# Altium schematic symbol library Schlib1.SchLib: 77 symbols
Pins are listed as number, name and electrical type; pins without a type are passive.

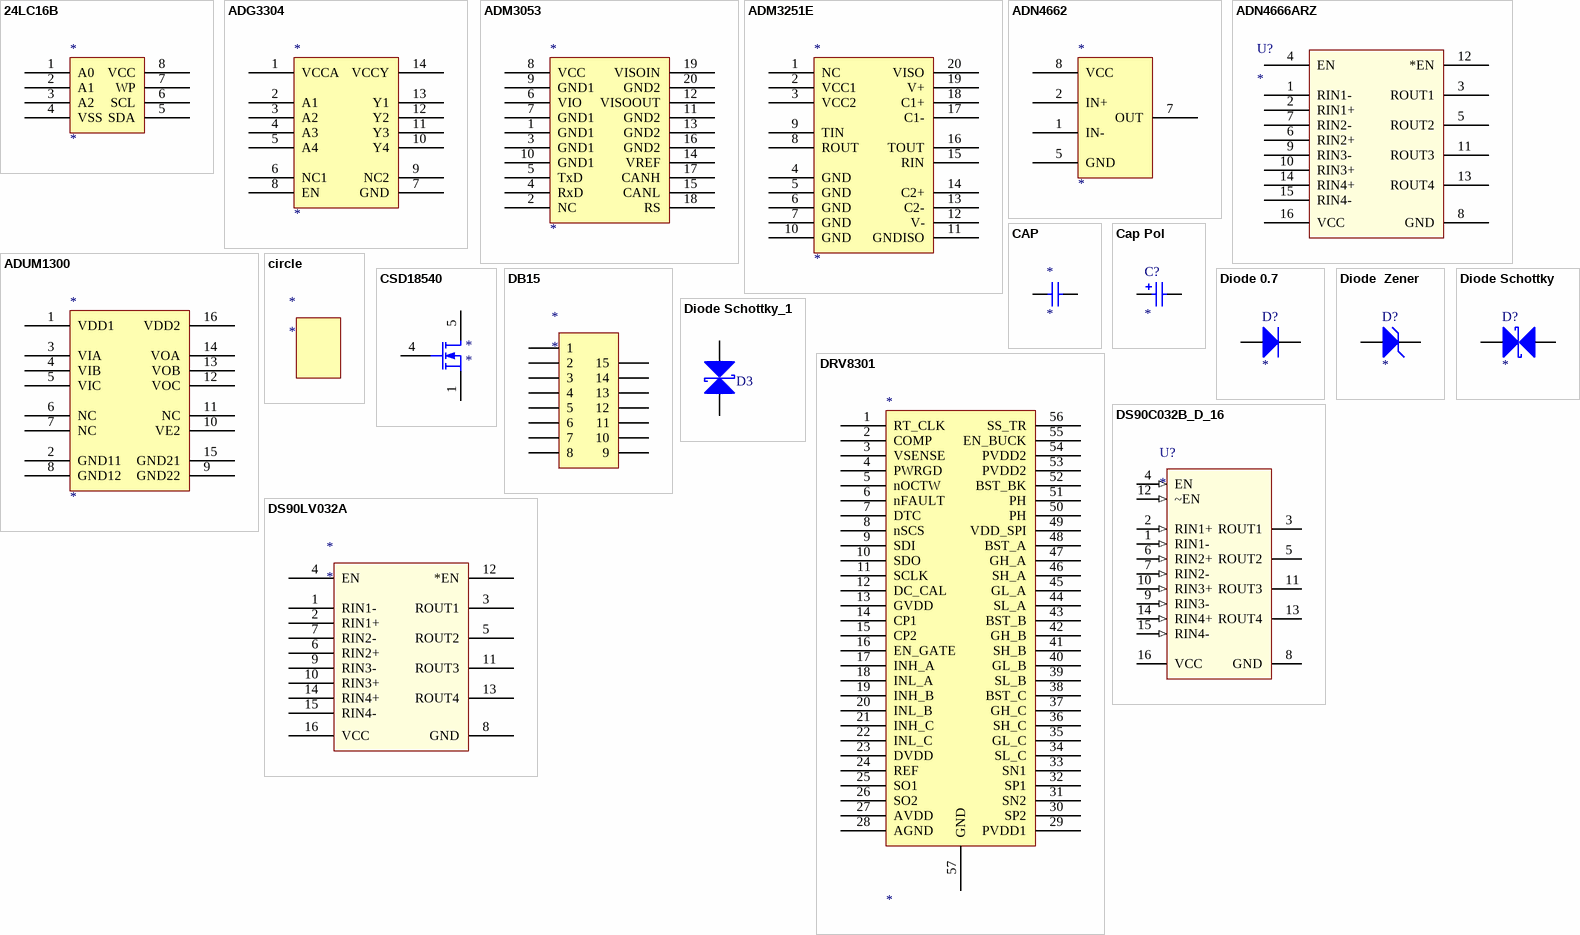
[diagram p0: symbols 24LC16B to DS90LV032A]

## 24LC16B
designator *
footprint 24LC16B SOIC8
pins: 1 A0, 2 A1, 3 A2, 4 VSS, 5 SDA, 6 SCL, 7 WP, 8 VCC
2 alternate drawings of the same symbol

## ADG3304
designator *
pins: 1 VCCA, 2 A1, 3 A2, 4 A3, 5 A4, 6 NC1, 7 GND, 8 EN, 9 NC2, 10 Y4, 11 Y3, 12 Y2, 13 Y1, 14 VCCY
2 alternate drawings of the same symbol

## ADM3053
designator *
footprint ADM3053 SOIC20
pins: 1 GND1, 2 NC, 3 GND1, 4 RxD, 5 TxD, 6 VIO, 7 GND1, 8 VCC, 9 GND1, 10 GND1, 11 GND2, 12 VISOOUT, 13 GND2, 14 VREF, 15 CANL, 16 GND2, 17 CANH, 18 RS, 19 VISOIN, 20 GND2
2 alternate drawings of the same symbol

## ADM3251E
designator *
footprint ADM3053 SOIC20
pins: 1 NC, 2 VCC1, 3 VCC2, 4 GND, 5 GND, 6 GND, 7 GND, 8 ROUT, 9 TIN, 10 GND, 11 GNDISO, 12 V-, 13 C2-, 14 C2+, 15 RIN, 16 TOUT, 17 C1-, 18 C1+, 19 V+, 20 VISO
2 alternate drawings of the same symbol

## ADN4662
designator *
footprint 24LC16B SOIC8
pins: 1 IN-, 2 IN+, 5 GND, 7 OUT, 8 VCC
2 alternate drawings of the same symbol

## ADN4666ARZ
designator U?
Imported; RefDes: RefDes; Type: DEV; Value: Value
footprint R_16
pins: 1 RIN1-, 2 RIN1+, 3 ROUT1, 4 EN, 5 ROUT2, 6 RIN2+, 7 RIN2-, 8 GND, 9 RIN3-, 10 RIN3+, 11 ROUT3, 12 *EN, 13 ROUT4, 14 RIN4+, 15 RIN4-, 16 VCC

## ADUM1300
designator *
pins: 1 VDD1, 2 GND11, 3 VIA, 4 VIB, 5 VIC, 6 NC, 7 NC, 8 GND12, 9 GND22, 10 VE2, 11 NC, 12 VOC, 13 VOB, 14 VOA, 15 GND21, 16 VDD2
2 alternate drawings of the same symbol

## CAP
designator *
pins: 1, 2
2 alternate drawings of the same symbol

## Cap Pol
designator C?
Polarized Capacitor (Radial); Published: *; Revision: *; Publisher: *; Value: *; Voltage: *
footprint CAPPR1.5-4X5
footprint CAPPR2.5-6.3X11.5
footprint CAPPR10-25X30
footprint CAPPR1.5-4X7
pins: 1, 2
2 alternate drawings of the same symbol

## circle
designator *

## CSD18540
designator *
footprint CSD18540 - duplicate
pins: 1 S, 4 G, 5 D
2 alternate drawings of the same symbol

## DB15
designator *
pins: 1, 2, 3, 4, 5, 6, 7, 8, 9, 10, 11, 12, 13, 14, 15

## Diode 0.7
designator D?
Default Diode; Published: *; Revision: *; Publisher: *; Code - JEDEC: *
footprint DIODE-0.7
pins: 1 A, 2 K
2 alternate drawings of the same symbol

## Diode  Zener
designator D?
Zener Diode; Published: *; Revision: *; Publisher: *
footprint DIODE-0.7
footprint DIODE-0.3
footprint DIODE-0.4
pins: 1 A, 2 K
2 alternate drawings of the same symbol

## Diode Schottky
designator D?
Schottky Diode; Published: *; LatestRevisionDate: *; LatestRevisionNote: *; PackageReference: *; Publisher: *; Code_JEDEC: *
footprint DSO-C2/X2.3
pins: 1 A, 2 K
2 alternate drawings of the same symbol

## Diode Schottky_1
designator D3, comment Diode Schottky  (value not drawn)
Schottky Diode; Published: 8-Jun-2000; LatestRevisionDate: 17-Jul-2002; LatestRevisionNote: Re-released for DXP Platform.; PackageReference: SMB; Publisher: Altium Limited; Code_JEDEC: DO-214-AA
footprint TVS
pins: 1 A, 2 K
2 alternate drawings of the same symbol

## DRV8301
designator *
footprint DRV8301
pins: 1 RT_CLK, 2 COMP, 3 VSENSE, 4 PWRGD, 5 nOCTW, 6 nFAULT, 7 DTC, 8 nSCS, 9 SDI, 10 SDO, 11 SCLK, 12 DC_CAL, 13 GVDD, 14 CP1, 15 CP2, 16 EN_GATE, 17 INH_A, 18 INL_A, 19 INH_B, 20 INL_B, 21 INH_C, 22 INL_C, 23 DVDD, 24 REF, 25 SO1, 26 SO2, 27 AVDD, 28 AGND, 29 PVDD1, 30 SP2, 31 SN2, 32 SP1, 33 SN1, 34 SL_C, 35 GL_C, 36 SH_C, 37 GH_C, 38 BST_C, 39 SL_B, 40 GL_B, 41 SH_B, 42 GH_B, 43 BST_B, 44 SL_A, 45 GL_A, 46 SH_A, 47 GH_A, 48 BST_A, 49 VDD_SPI, 50 PH, 51 PH, 52 BST_BK, 53 PVDD2, 54 PVDD2, 55 EN_BUCK, 56 SS_TR, 57 GND
2 alternate drawings of the same symbol

## DS90C032B_D_16
designator U?
Imported; PartNumber: DS90C032BTM; Manufacturer: NationalSemiconductor; PackageTopMarking: NSUZXYTTE#DS90C032BTM; PowerWise: N; CompType: InterfaceIC; ComponentLink1DescBC: DS90C032BDatasheet; ComponentLink2DescA4: DS90C032BWebPage; ComponentLink3DescAC: M16APackagePage; Value: Value; Published: 4-Dec-2008; DatasheetVersion: Sep-2003; PackageVersion: revJAug-1995; PackageReference: M16A; Publisher: AltiumLimited; PackageDescription: MoldedPackageSO150inWide16Lead; RoHS: N; PinCount: 16; Code_JEDEC: MS-012-AC; Code_IPC: SOIC127P600-16; ComponentLink1URL: http//wwwnationalcom/ds/DS/DS90C032Bpdf; ComponentLink2URL: http//wwwnationalcom/pf/DS/DS90C032Bhtml; ComponentLink3URL: http//wwwnationalcom/packaging/folders/m16ahtml
footprint M16A_N
pins: 1 RIN1- (in), 2 RIN1+ (in), 3 ROUT1 (hiz), 4 EN (in), 5 ROUT2 (hiz), 6 RIN2+ (in), 7 RIN2- (in), 8 GND (power), 9 RIN3- (in), 10 RIN3+ (in), 11 ROUT3 (hiz), 12 ~EN (in), 13 ROUT4 (hiz), 14 RIN4+ (in), 15 RIN4- (in), 16 VCC (power)

## DS90LV032A
designator *
footprint DS90LV032A
pins: 1 RIN1-, 2 RIN1+, 3 ROUT1, 4 EN, 5 ROUT2, 6 RIN2+, 7 RIN2-, 8 GND, 9 RIN3-, 10 RIN3+, 11 ROUT3, 12 *EN, 13 ROUT4, 14 RIN4+, 15 RIN4-, 16 VCC

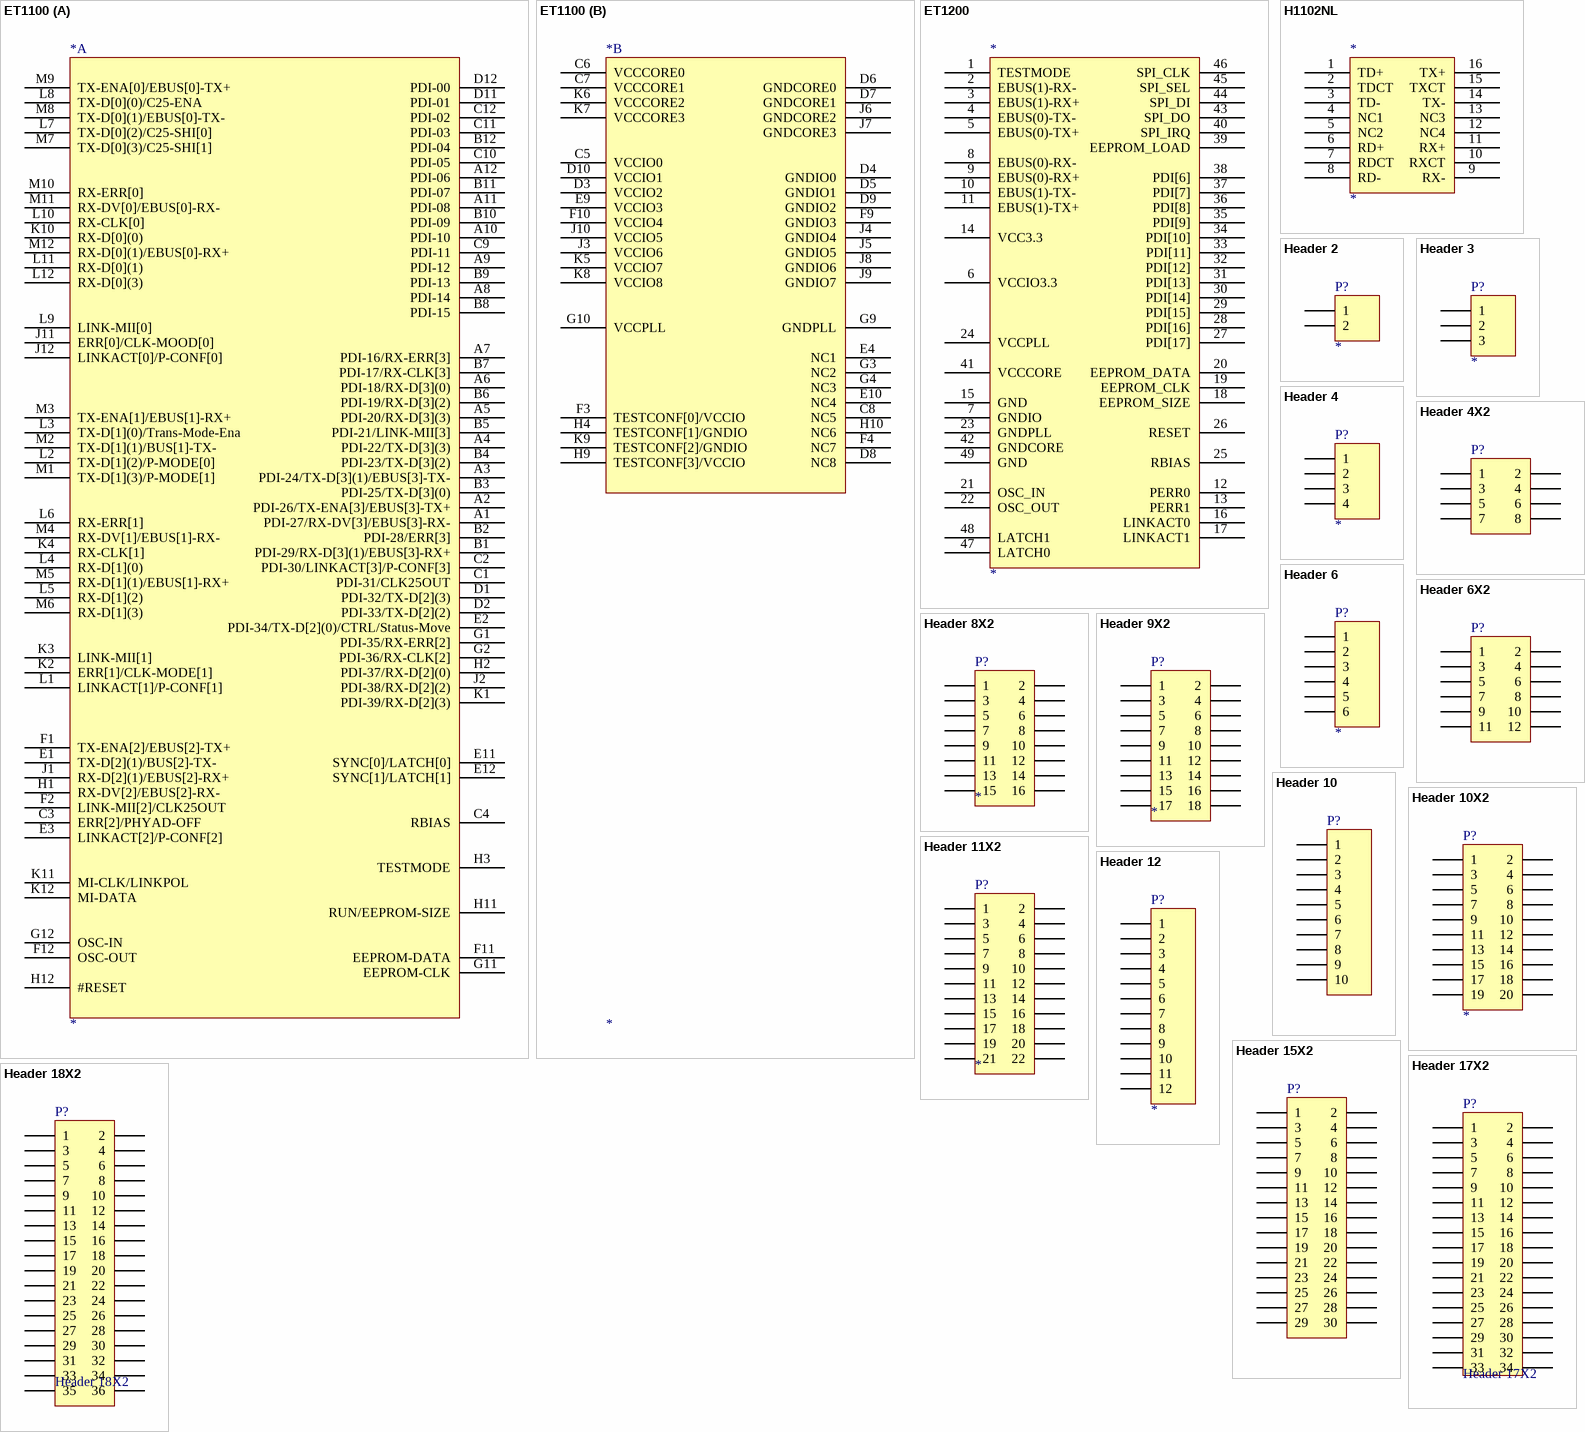
[diagram p1: symbols ET1100 to Header 18X2]

## ET1100
designator *
footprint ET1100
part A pins: A1 PDI-27/RX-DV[3]/EBUS[3]-RX-, A2 PDI-26/TX-ENA[3]/EBUS[3]-TX+, A3 PDI-24/TX-D[3](1)/EBUS[3]-TX-, A4 PDI-22/TX-D[3](3), A5 PDI-20/RX-D[3](3), A6 PDI-18/RX-D[3](0), A7 PDI-16/RX-ERR[3], A8 PDI-14, A9 PDI-12, A10 PDI-10, A11 PDI-08, A12 PDI-06, B1 PDI-29/RX-D[3](1)/EBUS[3]-RX+, B2 PDI-28/ERR[3], B3 PDI-25/TX-D[3](0), B4 PDI-23/TX-D[3](2), B5 PDI-21/LINK-MII[3], B6 PDI-19/RX-D[3](2), B7 PDI-17/RX-CLK[3], B8 PDI-15, B9 PDI-13, B10 PDI-09, B11 PDI-07, B12 PDI-04, C1 PDI-31/CLK25OUT, C2 PDI-30/LINKACT[3]/P-CONF[3], C3 ERR[2]/PHYAD-OFF, C4 RBIAS, C9 PDI-11, C10 PDI-05, C11 PDI-03, C12 PDI-02, D1 PDI-32/TX-D[2](3), D2 PDI-33/TX-D[2](2), D11 PDI-01, D12 PDI-00, E1 TX-D[2](1)/BUS[2]-TX-, E2 PDI-34/TX-D[2](0)/CTRL/Status-Move, E3 LINKACT[2]/P-CONF[2], E11 SYNC[0]/LATCH[0], E12 SYNC[1]/LATCH[1], F1 TX-ENA[2]/EBUS[2]-TX+, F2 LINK-MII[2]/CLK25OUT, F11 EEPROM-DATA, F12 OSC-OUT, G1 PDI-35/RX-ERR[2], G2 PDI-36/RX-CLK[2], G11 EEPROM-CLK, G12 OSC-IN, H1 RX-DV[2]/EBUS[2]-RX-, H2 PDI-37/RX-D[2](0), H3 TESTMODE, H11 RUN/EEPROM-SIZE, H12 #RESET, J1 RX-D[2](1)/EBUS[2]-RX+, J2 PDI-38/RX-D[2](2), J11 ERR[0]/CLK-MOOD[0], J12 LINKACT[0]/P-CONF[0], K1 PDI-39/RX-D[2](3), K2 ERR[1]/CLK-MODE[1], K3 LINK-MII[1], K4 RX-CLK[1], K10 RX-D[0](0), K11 MI-CLK/LINKPOL, K12 MI-DATA, L1 LINKACT[1]/P-CONF[1], L2 TX-D[1](2)/P-MODE[0], L3 TX-D[1](0)/Trans-Mode-Ena, L4 RX-D[1](0), L5 RX-D[1](2), L6 RX-ERR[1], L7 TX-D[0](2)/C25-SHI[0], L8 TX-D[0](0)/C25-ENA, L9 LINK-MII[0], L10 RX-CLK[0], L11 RX-D[0](1), L12 RX-D[0](3), M1 TX-D[1](3)/P-MODE[1], M2 TX-D[1](1)/BUS[1]-TX-, M3 TX-ENA[1]/EBUS[1]-RX+, M4 RX-DV[1]/EBUS[1]-RX-, M5 RX-D[1](1)/EBUS[1]-RX+, M6 RX-D[1](3), M7 TX-D[0](3)/C25-SHI[1], M8 TX-D[0](1)/EBUS[0]-TX-, M9 TX-ENA[0]/EBUS[0]-TX+, M10 RX-ERR[0], M11 RX-DV[0]/EBUS[0]-RX-, M12 RX-D[0](1)/EBUS[0]-RX+
part B pins: C5 VCCIO0, C6 VCCCORE0, C7 VCCCORE1, C8 NC5, D3 VCCIO2, D4 GNDIO0, D5 GNDIO1, D6 GNDCORE0, D7 GNDCORE1, D8 NC8, D9 GNDIO2, D10 VCCIO1, E4 NC1, E9 VCCIO3, E10 NC4, F3 TESTCONF[0]/VCCIO, F4 NC7, F9 GNDIO3, F10 VCCIO4, G3 NC2, G4 NC3, G9 GNDPLL, G10 VCCPLL, H4 TESTCONF[1]/GNDIO, H9 TESTCONF[3]/VCCIO, H10 NC6, J3 VCCIO6, J4 GNDIO4, J5 GNDIO5, J6 GNDCORE2, J7 GNDCORE3, J8 GNDIO6, J9 GNDIO7, J10 VCCIO5, K5 VCCIO7, K6 VCCCORE2, K7 VCCCORE3, K8 VCCIO8, K9 TESTCONF[2]/GNDIO
2 alternate drawings of the same symbol

## ET1200
designator *
pins: 1 TESTMODE, 2 EBUS(1)-RX-, 3 EBUS(1)-RX+, 4 EBUS(0)-TX-, 5 EBUS(0)-TX+, 6 VCCIO3.3, 7 GNDIO, 8 EBUS(0)-RX-, 9 EBUS(0)-RX+, 10 EBUS(1)-TX-, 11 EBUS(1)-TX+, 12 PERR0, 13 PERR1, 14 VCC3.3, 15 GND, 16 LINKACT0, 17 LINKACT1, 18 EEPROM_SIZE, 19 EEPROM_CLK, 20 EEPROM_DATA, 21 OSC_IN, 22 OSC_OUT, 23 GNDPLL, 24 VCCPLL, 25 RBIAS, 26 RESET, 27 PDI[17], 28 PDI[16], 29 PDI[15], 30 PDI[14], 31 PDI[13], 32 PDI[12], 33 PDI[11], 34 PDI[10], 35 PDI[9], 36 PDI[8], 37 PDI[7], 38 PDI[6], 39 EEPROM_LOAD, 40 SPI_IRQ, 41 VCCCORE, 42 GNDCORE, 43 SPI_DO, 44 SPI_DI, 45 SPI_SEL, 46 SPI_CLK, 47 LATCH0, 48 LATCH1, 49 GND
2 alternate drawings of the same symbol

## H1102NL
designator *
pins: 1 TD+, 2 TDCT, 3 TD-, 4 NC1, 5 NC2, 6 RD+, 7 RDCT, 8 RD-, 9 RX-, 10 RXCT, 11 RX+, 12 NC4, 13 NC3, 14 TX-, 15 TXCT, 16 TX+
2 alternate drawings of the same symbol

## Header 2
designator P?
Header, 2-Pin; LatestRevisionDate: *; LatestRevisionNote: *; Publisher: *
footprint HDR1X2
footprint HX2.54-2
pins: 1, 2
2 alternate drawings of the same symbol

## Header 3
designator P?
Header, 3-Pin; LatestRevisionDate: *; LatestRevisionNote: *; Publisher: *
footprint HDR1X3
footprint HX2.54-3
footprint HX3.96-3
footprint HX5.08-3L
pins: 1, 2, 3
2 alternate drawings of the same symbol

## Header 4
designator P?
Header, 4-Pin; LatestRevisionDate: *; LatestRevisionNote: *; Publisher: *
footprint HDR1X4
footprint HX2.54-4
footprint HX2.54V-4
footprint HX3.96-4
pins: 1, 2, 3, 4
2 alternate drawings of the same symbol

## Header 4X2
designator P?
Header, 4-Pin, Dual row; LatestRevisionDate: 17-Jul-2002; LatestRevisionNote: Re-released for DXP Platform.; Publisher: Altium Limited
footprint HDR2X4 (Connector; Header; 4x2 Position)
signal-integrity model Connector
pins: 1, 2, 3, 4, 5, 6, 7, 8

## Header 6
designator P?
Header, 6-Pin; LatestRevisionDate: *; LatestRevisionNote: *; Publisher: *
footprint HDR1X6
footprint HX2.54-6
footprint HX3.96-6
pins: 1, 2, 3, 4, 5, 6
2 alternate drawings of the same symbol

## Header 6X2
designator P?
Header, 6-Pin, Dual row; LatestRevisionDate: 17-Jul-2002; LatestRevisionNote: Re-released for DXP Platform.; Publisher: Altium Limited
footprint HDR2X6 (Connector; Header; 6x2 Position)
signal-integrity model Connector
pins: 1, 2, 3, 4, 5, 6, 7, 8, 9, 10, 11, 12

## Header 8X2
designator P?
Header, 16-Pin, Dual row; LatestRevisionDate: *; LatestRevisionNote: *; Publisher: *
footprint HDR2X7
pins: 1, 2, 3, 4, 5, 6, 7, 8, 9, 10, 11, 12, 13, 14, 15, 16
2 alternate drawings of the same symbol

## Header 9X2
designator P?
Header, 18-Pin, Dual row; LatestRevisionDate: *; LatestRevisionNote: *; Publisher: *
footprint HDR2X8
footprint IDC2.54-16
pins: 1, 2, 3, 4, 5, 6, 7, 8, 9, 10, 11, 12, 13, 14, 15, 16, 17, 18
2 alternate drawings of the same symbol

## Header 10
designator P?
Header, 10-Pin; LatestRevisionDate: 17-Jul-2002; LatestRevisionNote: Re-released for DXP Platform.; Publisher: Altium Limited
footprint HDR1X10 (Connector; Header; 10 Position)
signal-integrity model Connector
pins: 1, 2, 3, 4, 5, 6, 7, 8, 9, 10

## Header 10X2
designator P?
Header, 10-Pin, Dual row; LatestRevisionDate: *; LatestRevisionNote: *; Publisher: *
footprint HDR2X10
footprint IDC2.54-20
pins: 1, 2, 3, 4, 5, 6, 7, 8, 9, 10, 11, 12, 13, 14, 15, 16, 17, 18, 19, 20
2 alternate drawings of the same symbol

## Header 11X2
designator P?
Header, 10-Pin, Dual row; LatestRevisionDate: *; LatestRevisionNote: *; Publisher: *
footprint HDR2X10
footprint IDC2.54-20
pins: 1, 2, 3, 4, 5, 6, 7, 8, 9, 10, 11, 12, 13, 14, 15, 16, 17, 18, 19, 20, 21, 22
2 alternate drawings of the same symbol

## Header 12
designator P?
Header, 12-Pin; LatestRevisionDate: *; LatestRevisionNote: *; Publisher: *
footprint HDR1X12
footprint HX2.54-12
pins: 1, 2, 3, 4, 5, 6, 7, 8, 9, 10, 11, 12
2 alternate drawings of the same symbol

## Header 15X2
designator P?
Header, 15-Pin, Dual row; LatestRevisionDate: 17-Jul-2002; LatestRevisionNote: Re-released for DXP Platform.; Publisher: Altium Limited
footprint HDR2X15 (Connector; Header; 15x2 Position)
signal-integrity model Connector
pins: 1, 2, 3, 4, 5, 6, 7, 8, 9, 10, 11, 12, 13, 14, 15, 16, 17, 18, 19, 20, 21, 22, 23, 24, 25, 26, 27, 28, 29, 30

## Header 17X2
designator P?
Header, 16-Pin, Dual row; LatestRevisionDate: 17-Jul-2002; LatestRevisionNote: Re-released for DXP Platform.; Publisher: Altium Limited
footprint HDR2X16 (Connector; Header; 16x2 Position)
signal-integrity model Connector
pins: 1, 2, 3, 4, 5, 6, 7, 8, 9, 10, 11, 12, 13, 14, 15, 16, 17, 18, 19, 20, 21, 22, 23, 24, 25, 26, 27, 28, 29, 30, 31, 32, 33, 34

## Header 18X2
designator P?
Header,36-Pin, Dual row; LatestRevisionDate: 17-Jul-2002; LatestRevisionNote: Re-released for DXP Platform.; Publisher: Altium Limited
footprint DC_1.27_36
pins: 1, 2, 3, 4, 5, 6, 7, 8, 9, 10, 11, 12, 13, 14, 15, 16, 17, 18, 19, 20, 21, 22, 23, 24, 25, 26, 27, 28, 29, 30, 31, 32, 33, 34, 35, 36

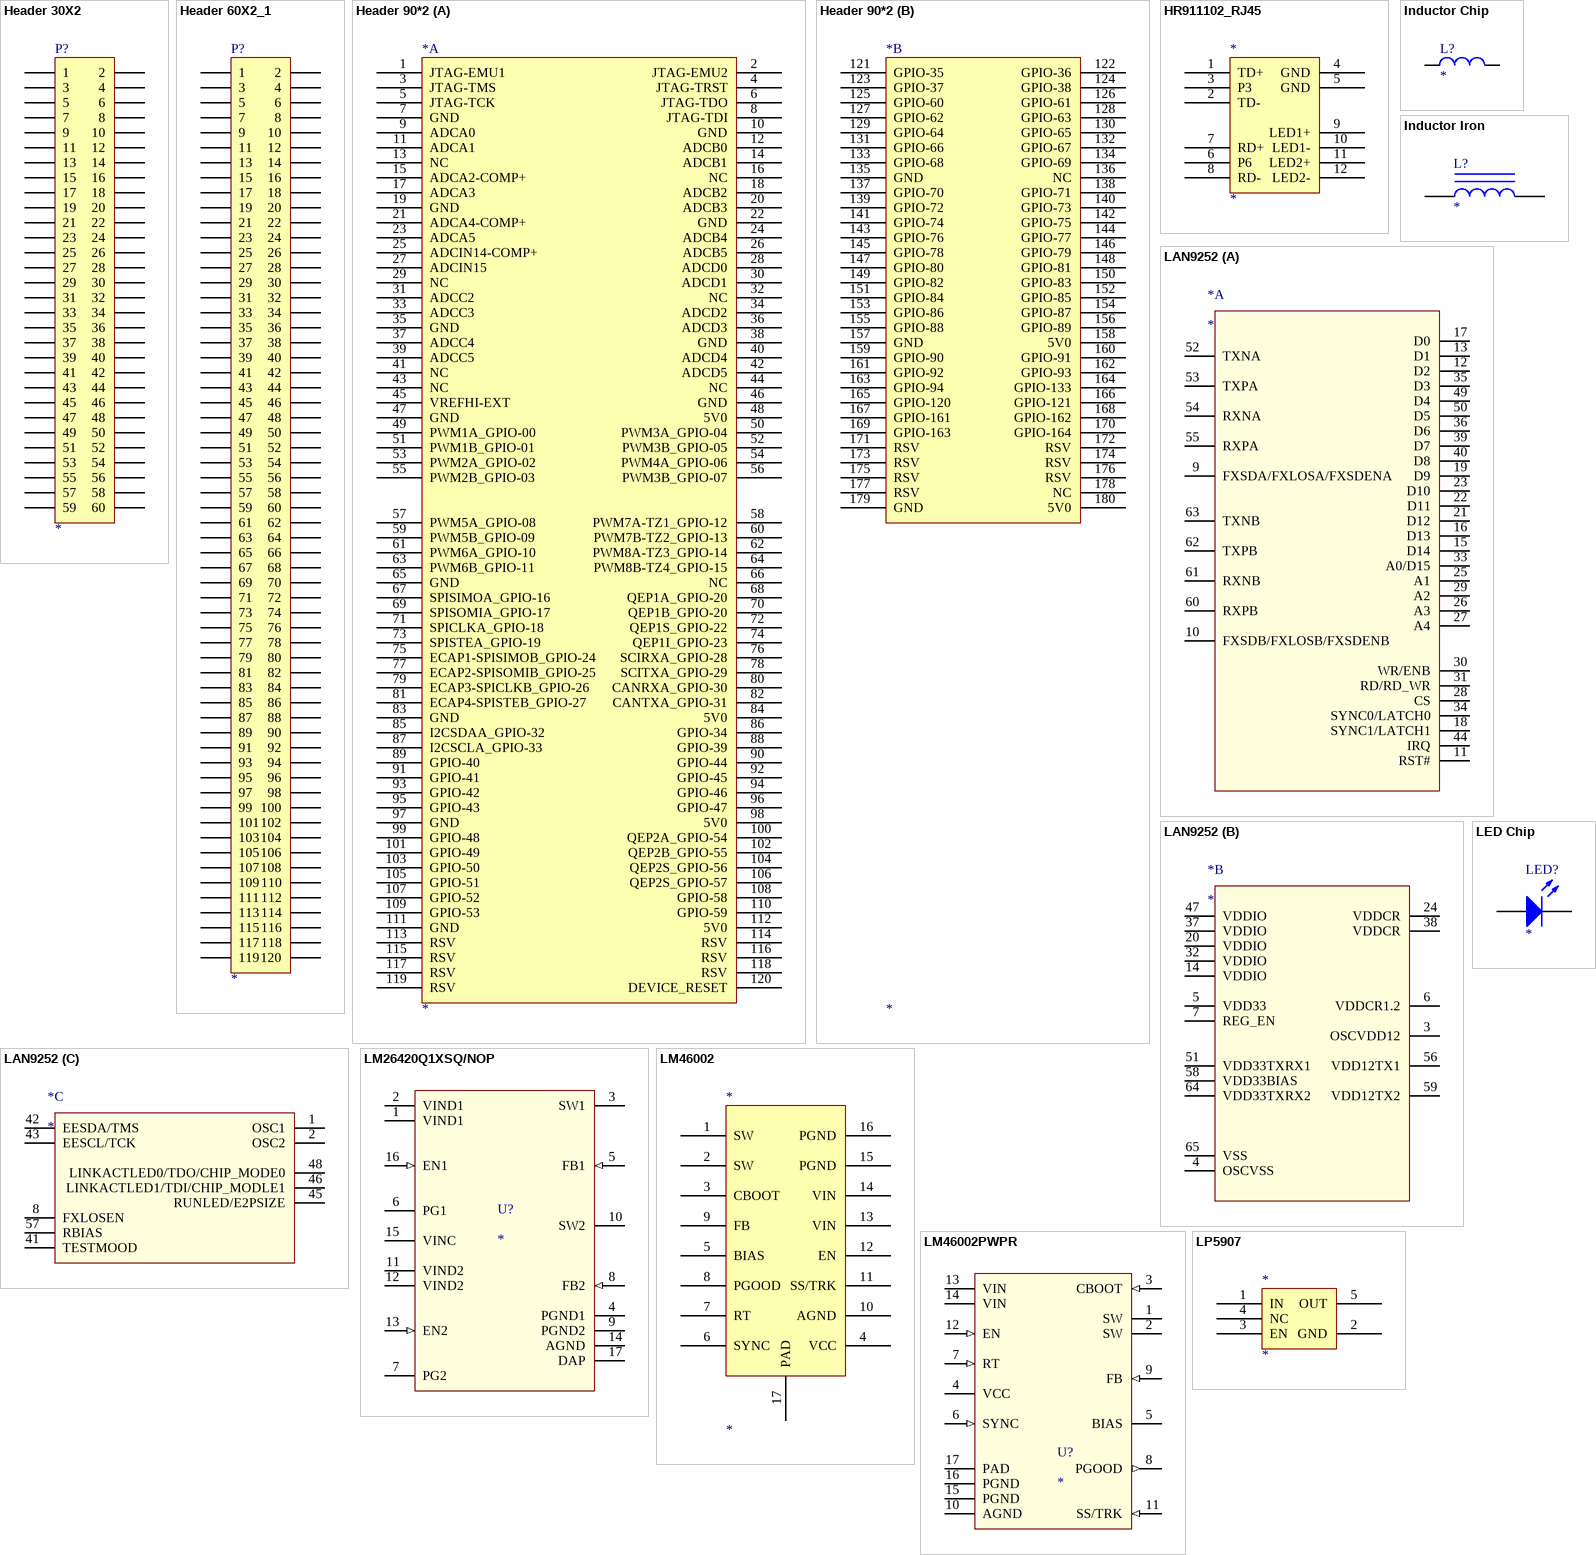
[diagram p2: symbols Header 30X2 to LP5907]

## Header 30X2
designator P?
Header, 30-Pin, Dual row; LatestRevisionDate: *; LatestRevisionNote: *; Publisher: *
footprint HDR2X30
pins: 1, 2, 3, 4, 5, 6, 7, 8, 9, 10, 11, 12, 13, 14, 15, 16, 17, 18, 19, 20, 21, 22, 23, 24, 25, 26, 27, 28, 29, 30, 31, 32, 33, 34, 35, 36, 37, 38, 39, 40, 41, 42, 43, 44, 45, 46, 47, 48, 49, 50, 51, 52, 53, 54, 55, 56, 57, 58, 59, 60
2 alternate drawings of the same symbol

## Header 60X2_1
designator P?
Header, 60-Pin, Dual row; LatestRevisionDate: *; LatestRevisionNote: *; Publisher: *
pins: 1, 2, 3, 4, 5, 6, 7, 8, 9, 10, 11, 12, 13, 14, 15, 16, 17, 18, 19, 20, 21, 22, 23, 24, 25, 26, 27, 28, 29, 30, 31, 32, 33, 34, 35, 36, 37, 38, 39, 40, 41, 42, 43, 44, 45, 46, 47, 48, 49, 50, 51, 52, 53, 54, 55, 56, 57, 58, 59, 60, 61, 62, 63, 64, 65, 66, 67, 68, 69, 70, 71, 72, 73, 74, 75, 76, 77, 78, 79, 80, 81, 82, 83, 84, 85, 86, 87, 88, 89, 90, 91, 92, 93, 94, 95, 96, 97, 98, 99, 100, 101, 102, 103, 104, 105, 106, 107, 108, 109, 110, 111, 112, 113, 114, 115, 116, 117, 118, 119, 120
2 alternate drawings of the same symbol

## Header 90*2
designator *
part A pins: 1 JTAG-EMU1, 2 JTAG-EMU2, 3 JTAG-TMS, 4 JTAG-TRST, 5 JTAG-TCK, 6 JTAG-TDO, 7 GND, 8 JTAG-TDI, 9 ADCA0, 10 GND, 11 ADCA1, 12 ADCB0, 13 NC, 14 ADCB1, 15 ADCA2-COMP+, 16 NC, 17 ADCA3, 18 ADCB2, 19 GND, 20 ADCB3, 21 ADCA4-COMP+, 22 GND, 23 ADCA5, 24 ADCB4, 25 ADCIN14-COMP+, 26 ADCB5, 27 ADCIN15, 28 ADCD0, 29 NC, 30 ADCD1, 31 ADCC2, 32 NC, 33 ADCC3, 34 ADCD2, 35 GND, 36 ADCD3, 37 ADCC4, 38 GND, 39 ADCC5, 40 ADCD4, 41 NC, 42 ADCD5, 43 NC, 44 NC, 45 VREFHI-EXT, 46 GND, 47 GND, 48 5V0, 49 PWM1A_GPIO-00, 50 PWM3A_GPIO-04, 51 PWM1B_GPIO-01, 52 PWM3B_GPIO-05, 53 PWM2A_GPIO-02, 54 PWM4A_GPIO-06, 55 PWM2B_GPIO-03, 56 PWM3B_GPIO-07, 57 PWM5A_GPIO-08, 58 PWM7A-TZ1_GPIO-12, 59 PWM5B_GPIO-09, 60 PWM7B-TZ2_GPIO-13, 61 PWM6A_GPIO-10, 62 PWM8A-TZ3_GPIO-14, 63 PWM6B_GPIO-11, 64 PWM8B-TZ4_GPIO-15, 65 GND, 66 NC, 67 SPISIMOA_GPIO-16, 68 QEP1A_GPIO-20, 69 SPISOMIA_GPIO-17, 70 QEP1B_GPIO-20, 71 SPICLKA_GPIO-18, 72 QEP1S_GPIO-22, 73 SPISTEA_GPIO-19, 74 QEP1I_GPIO-23, 75 ECAP1-SPISIMOB_GPIO-24, 76 SCIRXA_GPIO-28, 77 ECAP2-SPISOMIB_GPIO-25, 78 SCITXA_GPIO-29, 79 ECAP3-SPICLKB_GPIO-26, 80 CANRXA_GPIO-30, 81 ECAP4-SPISTEB_GPIO-27, 82 CANTXA_GPIO-31, 83 GND, 84 5V0, 85 I2CSDAA_GPIO-32, 86 GPIO-34, 87 I2CSCLA_GPIO-33, 88 GPIO-39, 89 GPIO-40, 90 GPIO-44, 91 GPIO-41, 92 GPIO-45, 93 GPIO-42, 94 GPIO-46, 95 GPIO-43, 96 GPIO-47, 97 GND, 98 5V0, 99 GPIO-48, 100 QEP2A_GPIO-54, 101 GPIO-49, 102 QEP2B_GPIO-55, 103 GPIO-50, 104 QEP2S_GPIO-56, 105 GPIO-51, 106 QEP2S_GPIO-57, 107 GPIO-52, 108 GPIO-58, 109 GPIO-53, 110 GPIO-59, 111 GND, 112 5V0, 113 RSV, 114 RSV, 115 RSV, 116 RSV, 117 RSV, 118 RSV, 119 RSV, 120 DEVICE_RESET
part B pins: 121 GPIO-35, 122 GPIO-36, 123 GPIO-37, 124 GPIO-38, 125 GPIO-60, 126 GPIO-61, 127 GPIO-62, 128 GPIO-63, 129 GPIO-64, 130 GPIO-65, 131 GPIO-66, 132 GPIO-67, 133 GPIO-68, 134 GPIO-69, 135 GND, 136 NC, 137 GPIO-70, 138 GPIO-71, 139 GPIO-72, 140 GPIO-73, 141 GPIO-74, 142 GPIO-75, 143 GPIO-76, 144 GPIO-77, 145 GPIO-78, 146 GPIO-79, 147 GPIO-80, 148 GPIO-81, 149 GPIO-82, 150 GPIO-83, 151 GPIO-84, 152 GPIO-85, 153 GPIO-86, 154 GPIO-87, 155 GPIO-88, 156 GPIO-89, 157 GND, 158 5V0, 159 GPIO-90, 160 GPIO-91, 161 GPIO-92, 162 GPIO-93, 163 GPIO-94, 164 GPIO-133, 165 GPIO-120, 166 GPIO-121, 167 GPIO-161, 168 GPIO-162, 169 GPIO-163, 170 GPIO-164, 171 RSV, 172 RSV, 173 RSV, 174 RSV, 175 RSV, 176 RSV, 177 RSV, 178 NC, 179 GND, 180 5V0
2 alternate drawings of the same symbol

## HR911102_RJ45
designator *
pins: 1 TD+, 2 TD-, 3 P3, 4 GND, 5 GND, 6 P6, 7 RD+, 8 RD-, 9 LED1+, 10 LED1-, 11 LED2+, 12 LED2-
2 alternate drawings of the same symbol

## Inductor Chip
designator L?
Inductor; Published: *; Revision: *; Publisher: *; Value: *
footprint CR1005-0402
footprint CC4532-1812
footprint CR1608-0603
footprint CR2012-0805
pins: 1, 2
2 alternate drawings of the same symbol

## Inductor Iron
designator L?
Magnetic-Core Inductor; Published: *; Revision: *; Publisher: *; Value: *
footprint AXIAL-0.9
pins: 1, 2
2 alternate drawings of the same symbol

## LAN9252
designator *
footprint LAN9252
part A pins: 9 FXSDA/FXLOSA/FXSDENA, 10 FXSDB/FXLOSB/FXSDENB, 11 RST#, 12 D2, 13 D1, 15 D14, 16 D13, 17 D0, 18 SYNC1/LATCH1, 19 D9, 21 D12, 22 D11, 23 D10, 25 A1, 26 A3, 27 A4, 28 CS, 29 A2, 30 WR/ENB, 31 RD/RD_WR, 33 A0/D15, 34 SYNC0/LATCH0, 35 D3, 36 D6, 39 D7, 40 D8, 44 IRQ, 49 D4, 50 D5, 52 TXNA, 53 TXPA, 54 RXNA, 55 RXPA, 60 RXPB, 61 RXNB, 62 TXPB, 63 TXNB
part B pins: 3 OSCVDD12, 4 OSCVSS, 5 VDD33, 6 VDDCR1.2, 7 REG_EN, 14 VDDIO, 20 VDDIO, 24 VDDCR, 32 VDDIO, 37 VDDIO, 38 VDDCR, 47 VDDIO, 51 VDD33TXRX1, 56 VDD12TX1, 58 VDD33BIAS, 59 VDD12TX2, 64 VDD33TXRX2, 65 VSS
part C pins: 1 OSC1, 2 OSC2, 8 FXLOSEN, 41 TESTMOOD, 42 EESDA/TMS, 43 EESCL/TCK, 45 RUNLED/E2PSIZE, 46 LINKACTLED1/TDI/CHIP_MODLE1, 48 LINKACTLED0/TDO/CHIP_MODE0, 57 RBIAS

## LED Chip
designator LED?
Typical Chip LED; Published: *; Revision: *; Publisher: *
footprint CLED1005-0402
footprint CLED1608-0603
footprint CLED2012-0805
footprint CLED3216-1206
pins: 1 A, 2 K
2 alternate drawings of the same symbol

## LM26420Q1XSQ/NOP
designator U?
Imported; PartNumber: LM26420Q1XSQ/NOPB; Manufacturer: Texas Instruments; CompType: IC; PIN_COUNT: 17; PackageReference: RUM0016A; MountType: SMT; RoHS: Y; RefDes: RefDes; Type: DEV; Value: Value
footprint RUM0016A
pins: 1 VIND1 (power), 2 VIND1 (power), 3 SW1 (power), 4 PGND1 (power), 5 FB1 (in), 6 PG1 (oc), 7 PG2 (oc), 8 FB2 (in), 9 PGND2 (power), 10 SW2 (power), 11 VIND2 (power), 12 VIND2 (power), 13 EN2 (in), 14 AGND (power), 15 VINC (power), 16 EN1 (in), 17 DAP (power)

## LM46002
designator *
footprint IM46002
pins: 1 SW, 2 SW, 3 CBOOT, 4 VCC, 5 BIAS, 6 SYNC, 7 RT, 8 PGOOD, 9 FB, 10 AGND, 11 SS/TRK, 12 EN, 13 VIN, 14 VIN, 15 PGND, 16 PGND, 17 PAD
2 alternate drawings of the same symbol

## LM46002PWPR
designator U?
Imported; PartNumber: LM46002PWP; Alternate Manufacturer: None; Manufacturer: Texas Instruments; CurrentTime: Not shown in title block; DocumentNumber: 1; SymbolCreator: a0411947; CompType: IC; U/M: EA; Designator: U?; PIN_COUNT: 17; CurrentDate: Not shown in title block; Time: Not shown in title block; Date: Not shown in title block; DocumentFullPathAndName: Not shown in title block; DocumentName: Not shown in title block; ModifiedDate: Not shown in title block; ApprovedBy: Not shown in title block; CheckedBy: Not shown in title block; Author: Not shown in title block; CompanyName: Not shown in title block; Engineer: Not shown in title block; Organization: Not shown in title block; Address1: Not shown in title block; Address2: Not shown in title block; Address3: Not shown in title block; Address4: Not shown in title block; Revision: Use project parameter SCH_Rev; SheetNumber: 1; SheetTotal: 1; ImagePath: Not shown in title block; Rule: *; ProjectName: *; SymbolVersion: 2014-01-28; PackageReference: PWP0016A; MountType: SMT; ComponentLink1Description: Datasheet Link; ComponentLink1URL: https://sps06.itg.ti.com/sites/KMS/crossdivteams/altium/docs/ComponentDatasheets/LM46002-PrelimDS-2014-1-16.pdf; RoHS: Y; Publisher: Texas Instruments; LatestRevisionDate: 2014-02-20; RefDes: RefDes; Type: DEV; Value: Value
footprint PWP0016F
pins: 1 SW (power), 2 SW (power), 3 CBOOT (in), 4 VCC (power), 5 BIAS (power), 6 SYNC (in), 7 RT (in), 8 PGOOD (out), 9 FB (in), 10 AGND (power), 11 SS/TRK (in), 12 EN (in), 13 VIN (power), 14 VIN (power), 15 PGND (power), 16 PGND (power), 17 PAD (power)

## LP5907
designator *
pins: 1 IN, 2 GND, 3 EN, 4 NC, 5 OUT
2 alternate drawings of the same symbol

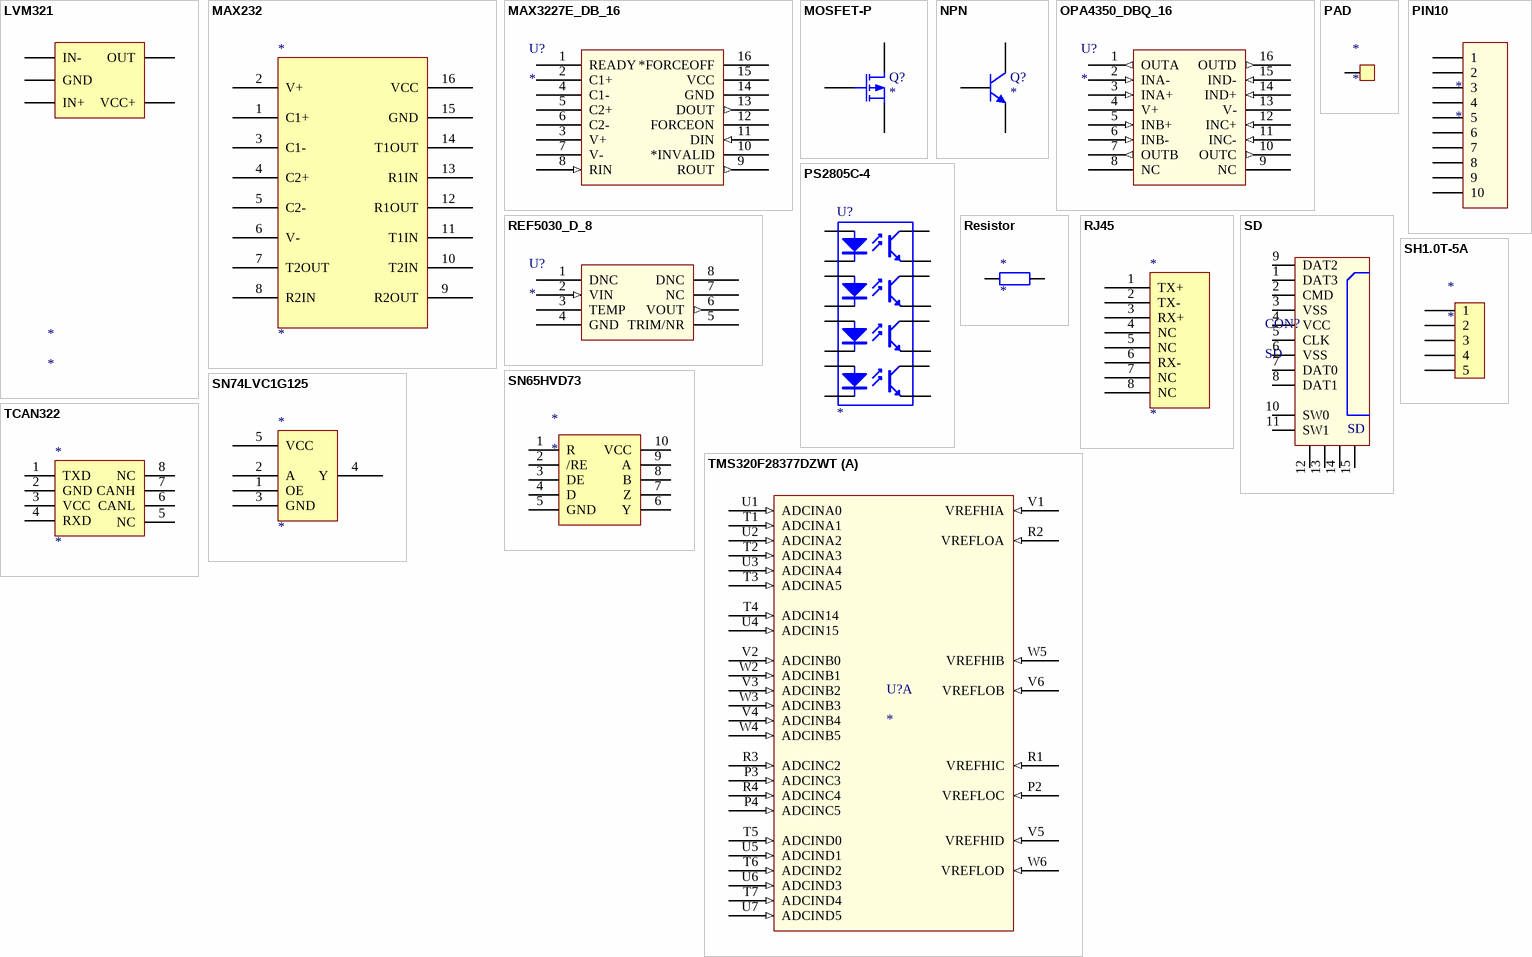
[diagram p3: symbols LVM321 to TMS320F28377DZWT]

## LVM321
designator *
footprint LVM321
pins: 1 IN+, 2 GND, 3 IN-, 4 OUT, 5 VCC+

## MAX232
designator *
footprint MAX232
pins: 1 C1+, 2 V+, 3 C1-, 4 C2+, 5 C2-, 6 V-, 7 T2OUT, 8 R2IN, 9 R2OUT, 10 T2IN, 11 T1IN, 12 R1OUT, 13 R1IN, 14 T1OUT, 15 GND, 16 VCC
2 alternate drawings of the same symbol

## MAX3227E_DB_16
designator U?
Imported; Manufacturer: Texas Instruments; GENERIC_PART_NUMBER: MAX3227E; Manufacturer_Part_Number: max3227e_db_16; INDUSTRY_STD_PKG_TYPE: SSOP; FAMILY_NAME: RS-232; PIN_COUNT: 16; PACKAGE_DESIGNATOR: DB; Datasheet URL: http://www.ti.com/lit/gpn/MAX3227E; Vendor: Texas Instruments; RefDes: RefDes; Type: DEV; Value: Value
footprint DB16
pins: 1 READY, 2 C1+, 3 V+ (power), 4 C1-, 5 C2+, 6 C2-, 7 V- (power), 8 RIN (in), 9 ROUT (out), 10 *INVALID, 11 DIN (in), 12 FORCEON, 13 DOUT (out), 14 GND (power), 15 VCC (power), 16 *FORCEOFF

## MOSFET-P
designator Q?
P-Channel MOSFET; Published: *; Revision: *; Publisher: *
footprint BCY-W3/H.8
pins: 1 D, 2 G, 3 S
2 alternate drawings of the same symbol

## NPN
designator Q?
NPN Bipolar Transistor; Published: *; Revision: *; Publisher: *; Code - JEDEC: *
footprint TO-92C
footprint TO-92A
footprint TO-92B
footprint TO-92C-TRIANGLE
pins: 1 B, 2 E, 3 C
2 alternate drawings of the same symbol

## OPA4350_DBQ_16
designator U?
Imported; Manufacturer: Texas Instruments; GENERIC_PART_NUMBER: OPA4350; Manufacturer_Part_Number: opa4350_dbq_16; INDUSTRY_STD_PKG_TYPE: SSOP/QSOP; FAMILY_NAME: LOW OFFSET VOLTAGE; PIN_COUNT: 16; PACKAGE_DESIGNATOR: DBQ; Datasheet URL: http://www.ti.com/lit/gpn/OPA4350; Vendor: Texas Instruments; RefDes: RefDes; Type: DEV; Value: Value
footprint OPA4350
pins: 1 OUTA (out), 2 INA- (in), 3 INA+ (in), 4 V+ (power), 5 INB+ (in), 6 INB- (in), 7 OUTB (out), 8 NC, 9 NC, 10 OUTC (out), 11 INC- (in), 12 INC+ (in), 13 V- (power), 14 IND+ (in), 15 IND- (in), 16 OUTD (out)

## PAD
designator *
footprint PAD
pins: 1

## PIN10
designator *
pins: 1, 2, 3, 4, 5, 6, 7, 8, 9, 10

## PS2805C-4
designator U?
Optoisolator; Published: *; Revision: *; Publisher: *
footprint PS2805C_4
pins: 1 A, 2 K, 3 A, 4 A, 5 A, 6 A, 7 A, 8 A, 9 A, 10 A, 11 A, 12 A, 13 A, 14 A, 15 E, 16 C
2 alternate drawings of the same symbol

## REF5030_D_8
designator U?
Imported; Manufacturer: Texas Instruments; GENERIC_PART_NUMBER: REF5030; Manufacturer_Part_Number: ref5030_d_8; INDUSTRY_STD_PKG_TYPE: SOIC; FAMILY_NAME: SERIES VOLTAGE REFERENCE; PIN_COUNT: 8; PACKAGE_DESIGNATOR: D; Datasheet URL: http://www.ti.com/lit/gpn/REF5030; Vendor: Texas Instruments; RefDes: RefDes; Type: DEV; Value: Value
footprint REF5030
pins: 1 DNC, 2 VIN (in), 3 TEMP, 4 GND, 5 TRIM/NR, 6 VOUT (out), 7 NC, 8 DNC

## Resistor
designator *
pins: 1, 2
2 alternate drawings of the same symbol

## RJ45
designator *
pins: 1 TX+, 2 TX-, 3 RX+, 4 NC, 5 NC, 6 RX-, 7 NC, 8 NC
2 alternate drawings of the same symbol

## SD
designator CON?
footprint SD_SHORT
footprint SDcard (WWW.OURAVR.COM)
pins: 1 DAT3, 2 CMD, 3 VSS, 4 VCC, 5 CLK, 6 VSS, 7 DAT0, 8 DAT1, 9 DAT2, 10 SW0, 11 SW1, 12, 13, 14, 15

## SH1.0T-5A
designator *
footprint SH1.0T-5A
pins: 1, 2, 3, 4, 5

## SN65HVD73
designator *
pins: 1 R, 2 /RE, 3 DE, 4 D, 5 GND, 6 Y, 7 Z, 8 B, 9 A, 10 VCC

## SN74LVC1G125
designator *
footprint 74LVC1G125
pins: 1 OE, 2 A, 3 GND, 4 Y, 5 VCC
2 alternate drawings of the same symbol

## TCAN322
designator *
pins: 1 TXD, 2 GND, 3 VCC, 4 RXD, 5 NC, 6 CANL, 7 CANH, 8 NC
2 alternate drawings of the same symbol

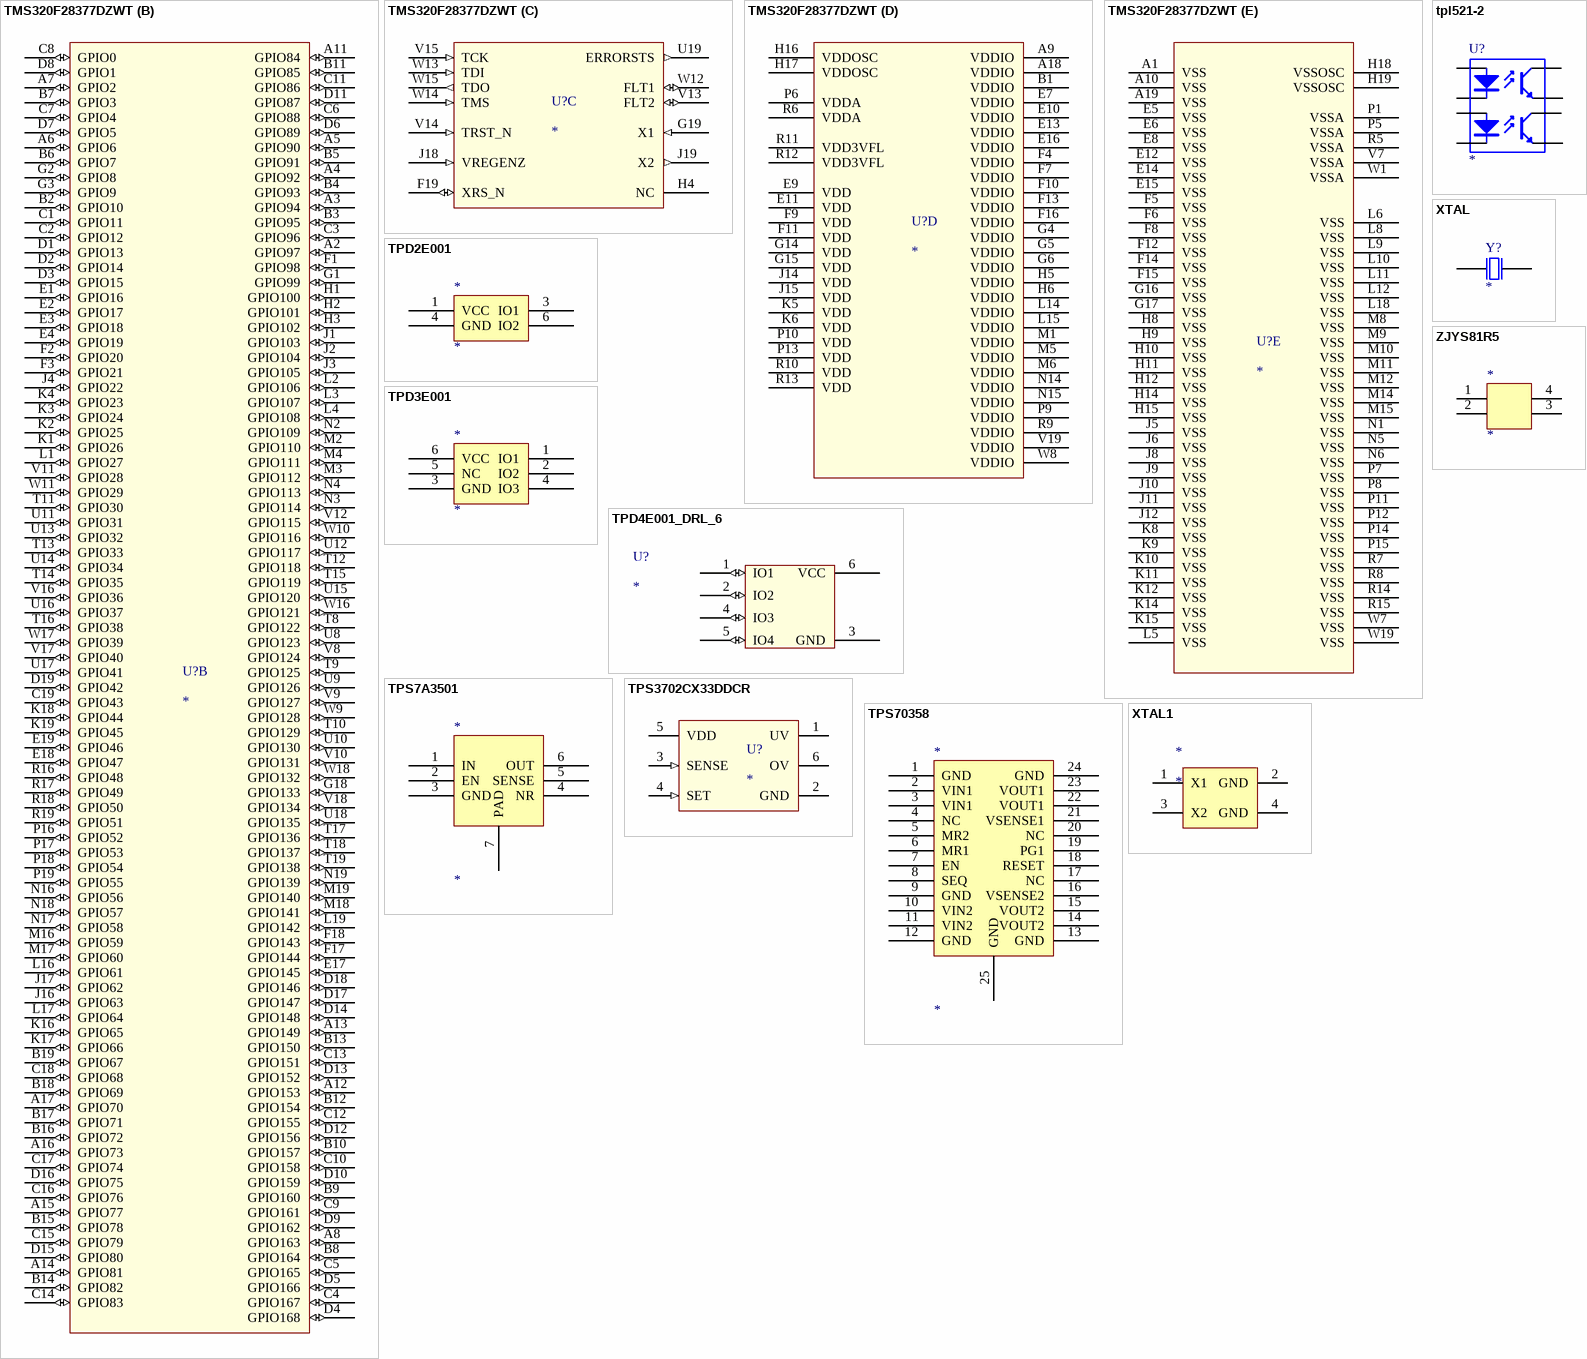
[diagram p4: symbols TMS320F28377DZWT to ZJYS81R5]

## TMS320F28377DZWT
designator U?
Imported; PartNumber: TMS320F28377DZWTS; Manufacturer: Texas Instruments; RefDes: RefDes; Type: DEV; Value: Value
footprint TMS320F28377D
part A pins: P2 VREFLOC (in), P3 ADCINC3 (in), P4 ADCINC5 (in), R1 VREFHIC (in), R2 VREFLOA (in), R3 ADCINC2 (in), R4 ADCINC4 (in), T1 ADCINA1 (in), T2 ADCINA3 (in), T3 ADCINA5 (in), T4 ADCIN14 (in), T5 ADCIND0 (in), T6 ADCIND2 (in), T7 ADCIND4 (in), U1 ADCINA0 (in), U2 ADCINA2 (in), U3 ADCINA4 (in), U4 ADCIN15 (in), U5 ADCIND1 (in), U6 ADCIND3 (in), U7 ADCIND5 (in), V1 VREFHIA (in), V2 ADCINB0 (in), V3 ADCINB2 (in), V4 ADCINB4 (in), V5 VREFHID (in), V6 VREFLOB (in), W2 ADCINB1 (in), W3 ADCINB3 (in), W4 ADCINB5 (in), W5 VREFHIB (in), W6 VREFLOD (in)
part B pins: A2 GPIO97 (io), A3 GPIO94 (io), A4 GPIO92 (io), A5 GPIO90 (io), A6 GPIO6 (io), A7 GPIO2 (io), A8 GPIO163 (io), A11 GPIO84 (io), A12 GPIO153 (io), A13 GPIO149 (io), A14 GPIO81 (io), A15 GPIO77 (io), A16 GPIO73 (io), A17 GPIO70 (io), B2 GPIO10 (io), B3 GPIO95 (io), B4 GPIO93 (io), B5 GPIO91 (io), B6 GPIO7 (io), B7 GPIO3 (io), B8 GPIO164 (io), B9 GPIO160 (io), B10 GPIO157 (io), B11 GPIO85 (io), B12 GPIO154 (io), B13 GPIO150 (io), B14 GPIO82 (io), B15 GPIO78 (io), B16 GPIO72 (io), B17 GPIO71 (io), B18 GPIO69 (io), B19 GPIO67 (io), C1 GPIO11 (io), C2 GPIO12 (io), C3 GPIO96 (io), C4 GPIO167 (io), C5 GPIO165 (io), C6 GPIO88 (io), C7 GPIO4 (io), C8 GPIO0 (io), C9 GPIO161 (io), C10 GPIO158 (io), C11 GPIO86 (io), C12 GPIO155 (io), C13 GPIO151 (io), C14 GPIO83 (io), C15 GPIO79 (io), C16 GPIO76 (io), C17 GPIO74 (io), C18 GPIO68 (io), C19 GPIO43 (io), D1 GPIO13 (io), D2 GPIO14 (io), D3 GPIO15 (io), D4 GPIO168 (io), D5 GPIO166 (io), D6 GPIO89 (io), D7 GPIO5 (io), D8 GPIO1 (io), D9 GPIO162 (io), D10 GPIO159 (io), D11 GPIO87 (io), D12 GPIO156 (io), D13 GPIO152 (io), D14 GPIO148 (io), D15 GPIO80 (io), D16 GPIO75 (io), D17 GPIO147 (io), D18 GPIO146 (io), D19 GPIO42 (io), E1 GPIO16 (io), E2 GPIO17 (io), E3 GPIO18 (io), E4 GPIO19 (io), E17 GPIO145 (io), E18 GPIO47 (io), E19 GPIO46 (io), F1 GPIO98 (io), F2 GPIO20 (io), F3 GPIO21 (io), F17 GPIO144 (io), F18 GPIO143 (io), G1 GPIO99 (io), G2 GPIO8 (io), G3 GPIO9 (io), G18 GPIO133 (io), H1 GPIO100 (io), H2 GPIO101 (io), H3 GPIO102 (io), J1 GPIO103 (io), J2 GPIO104 (io), J3 GPIO105 (io), J4 GPIO22 (io), J16 GPIO63 (io), J17 GPIO62 (io), K1 GPIO26 (io), K2 GPIO25 (io), K3 GPIO24 (io), K4 GPIO23 (io), K16 GPIO65 (io), K17 GPIO66 (io), K18 GPIO44 (io), K19 GPIO45 (io), L1 GPIO27 (io), L2 GPIO106 (io), L3 GPIO107 (io), L4 GPIO108 (io), L16 GPIO61 (io), L17 GPIO64 (io), L19 GPIO142 (io), M2 GPIO110 (io), M3 GPIO112 (io), M4 GPIO111 (io), M16 GPIO59 (io), M17 GPIO60 (io), M18 GPIO141 (io), M19 GPIO140 (io), N2 GPIO109 (io), N3 GPIO114 (io), N4 GPIO113 (io), N16 GPIO56 (io), N17 GPIO58 (io), N18 GPIO57 (io), N19 GPIO139 (io), P16 GPIO52 (io), P17 GPIO53 (io), P18 GPIO54 (io), P19 GPIO55 (io), R16 GPIO48 (io), R17 GPIO49 (io), R18 GPIO50 (io), R19 GPIO51 (io), T8 GPIO122 (io), T9 GPIO125 (io), T10 GPIO129 (io), T11 GPIO30 (io), T12 GPIO118 (io), T13 GPIO33 (io), T14 GPIO35 (io), T15 GPIO119 (io), T16 GPIO38 (io), T17 GPIO136 (io), T18 GPIO137 (io), T19 GPIO138 (io), U8 GPIO123 (io), U9 GPIO126 (io), U10 GPIO130 (io), U11 GPIO31 (io), U12 GPIO117 (io), U13 GPIO32 (io), U14 GPIO34 (io), U15 GPIO120 (io), U16 GPIO37 (io), U17 GPIO41 (io), U18 GPIO135 (io), V8 GPIO124 (io), V9 GPIO127 (io), V10 GPIO131 (io), V11 GPIO28 (io), V12 GPIO115 (io), V16 GPIO36 (io), V17 GPIO40 (io), V18 GPIO134 (io), W9 GPIO128 (io), W10 GPIO116 (io), W11 GPIO29 (io), W16 GPIO121 (io), W17 GPIO39 (io), W18 GPIO132 (io)
part C pins: F19 XRS_N (io), G19 X1 (in), H4 NC, J18 VREGENZ (in), J19 X2 (out), U19 ERRORSTS (out), V13 FLT2 (io), V14 TRST_N (in), V15 TCK (in), W12 FLT1 (io), W13 TDI (in), W14 TMS (in), W15 TDO (out)
part D pins: A9 VDDIO (power), A18 VDDIO (power), B1 VDDIO (power), E7 VDDIO (power), E9 VDD (power), E10 VDDIO (power), E11 VDD (power), E13 VDDIO (power), E16 VDDIO (power), F4 VDDIO (power), F7 VDDIO (power), F9 VDD (power), F10 VDDIO (power), F11 VDD (power), F13 VDDIO (power), F16 VDDIO (power), G4 VDDIO (power), G5 VDDIO (power), G6 VDDIO (power), G14 VDD (power), G15 VDD (power), H5 VDDIO (power), H6 VDDIO (power), H16 VDDOSC (power), H17 VDDOSC (power), J14 VDD (power), J15 VDD (power), K5 VDD (power), K6 VDD (power), L14 VDDIO (power), L15 VDDIO (power), M1 VDDIO (power), M5 VDDIO (power), M6 VDDIO (power), N14 VDDIO (power), N15 VDDIO (power), P6 VDDA (power), P9 VDDIO (power), P10 VDD (power), P13 VDD (power), R6 VDDA (power), R9 VDDIO (power), R10 VDD (power), R11 VDD3VFL (power), R12 VDD3VFL (power), R13 VDD (power), V19 VDDIO (power), W8 VDDIO (power)
part E pins: A1 VSS (power), A10 VSS (power), A19 VSS (power), E5 VSS (power), E6 VSS (power), E8 VSS (power), E12 VSS (power), E14 VSS (power), E15 VSS (power), F5 VSS (power), F6 VSS (power), F8 VSS (power), F12 VSS (power), F14 VSS (power), F15 VSS (power), G16 VSS (power), G17 VSS (power), H8 VSS (power), H9 VSS (power), H10 VSS (power), H11 VSS (power), H12 VSS (power), H14 VSS (power), H15 VSS (power), H18 VSSOSC (power), H19 VSSOSC (power), J5 VSS (power), J6 VSS (power), J8 VSS (power), J9 VSS (power), J10 VSS (power), J11 VSS (power), J12 VSS (power), K8 VSS (power), K9 VSS (power), K10 VSS (power), K11 VSS (power), K12 VSS (power), K14 VSS (power), K15 VSS (power), L5 VSS (power), L6 VSS (power), L8 VSS (power), L9 VSS (power), L10 VSS (power), L11 VSS (power), L12 VSS (power), L18 VSS (power), M8 VSS (power), M9 VSS (power), M10 VSS (power), M11 VSS (power), M12 VSS (power), M14 VSS (power), M15 VSS (power), N1 VSS (power), N5 VSS (power), N6 VSS (power), P1 VSSA (power), P5 VSSA (power), P7 VSS (power), P8 VSS (power), P11 VSS (power), P12 VSS (power), P14 VSS (power), P15 VSS (power), R5 VSSA (power), R7 VSS (power), R8 VSS (power), R14 VSS (power), R15 VSS (power), V7 VSSA (power), W1 VSSA (power), W7 VSS (power), W19 VSS (power)

## TPD2E001
designator *
footprint TPD2E001
pins: 1 VCC, 3 IO1, 4 GND, 6 IO2
2 alternate drawings of the same symbol

## TPD3E001
designator *
footprint TPD3E001
pins: 1 IO1, 2 IO2, 3 GND, 4 IO3, 5 NC, 6 VCC
2 alternate drawings of the same symbol

## TPD4E001_DRL_6
designator U?
Imported; Manufacturer_Part_Number: tpd4e001_drl_6; GENERIC_PART_NUMBER: TPD4E001; Vendor: Texas Instruments; PACKAGE_DESIGNATOR: DRL; PIN_COUNT: 6; FAMILY_NAME: ESD Solution; INDUSTRY_STD_PKG_TYPE: SOT; Datasheet URL: http://www.ti.com/lit/gpn/TPD4E001; Manufacturer: Texas Instruments; RefDes: RefDes; Type: DEV; Value: Value
footprint TPD4E001
pins: 1 IO1 (io), 2 IO2 (io), 3 GND (power), 4 IO3 (io), 5 IO4 (io), 6 VCC (power)

## tpl521-2
designator U?
Optoisolator; Published: *; Revision: *; Publisher: *
footprint TPL521-4
pins: 1 A, 2 K, 3 A, 4 A, 13 A, 14 A, 15 E, 16 C
2 alternate drawings of the same symbol

## TPS7A3501
designator *
pins: 1 IN, 2 EN, 3 GND, 4 NR, 5 SENSE, 6 OUT, 7 PAD
2 alternate drawings of the same symbol

## TPS3702CX33DDCR
designator U?
Imported; PartNumber: TPS3702CX33DDCR; Alternate PartNumber: TPS3702CX33DDCT; Manufacturer: Texas Instruments; CompType: IC; PIN_COUNT: 6; PackageReference: DDC0006A; MountType: SMT; RefDes: RefDes; Type: DEV; Value: Value
footprint DDC0006A_N
pins: 1 UV (oc), 2 GND (power), 3 SENSE (in), 4 SET (in), 5 VDD (power), 6 OV (oc)

## TPS70358
designator *
footprint TPS70358
pins: 1 GND, 2 VIN1, 3 VIN1, 4 NC, 5 MR2, 6 MR1, 7 EN, 8 SEQ, 9 GND, 10 VIN2, 11 VIN2, 12 GND, 13 GND, 14 VOUT2, 15 VOUT2, 16 VSENSE2, 17 NC, 18 RESET, 19 PG1, 20 NC, 21 VSENSE1, 22 VOUT1, 23 VOUT1, 24 GND, 25 GND
2 alternate drawings of the same symbol

## XTAL
designator Y?
Crystal Oscillator; Published: *; Revision: *; Publisher: *; Frequency: *
footprint XTAL-Cylinder
footprint XTAL
footprint XTAL-49/U_N
footprint XTAL-PINGBI
pins: 1 OSC1, 2 OSC2
2 alternate drawings of the same symbol

## XTAL1
designator *
pins: 1 X1, 2 GND, 3 X2, 4 GND

## ZJYS81R5
designator *
pins: 1, 2, 3, 4
2 alternate drawings of the same symbol